# Altium footprint library PK2N-3LLE-SD.PcbLib: 1 footprints
Each footprint in its own frame and in the unit in brackets; x right, y up, seen from the top. Pads: shape width x height; smd on the part's side, far side on the other; paste and mask are expansions set on the pad; w line width, h text height; cw(c..) or ccw(c..) is an arc to the next point about the centre after c.
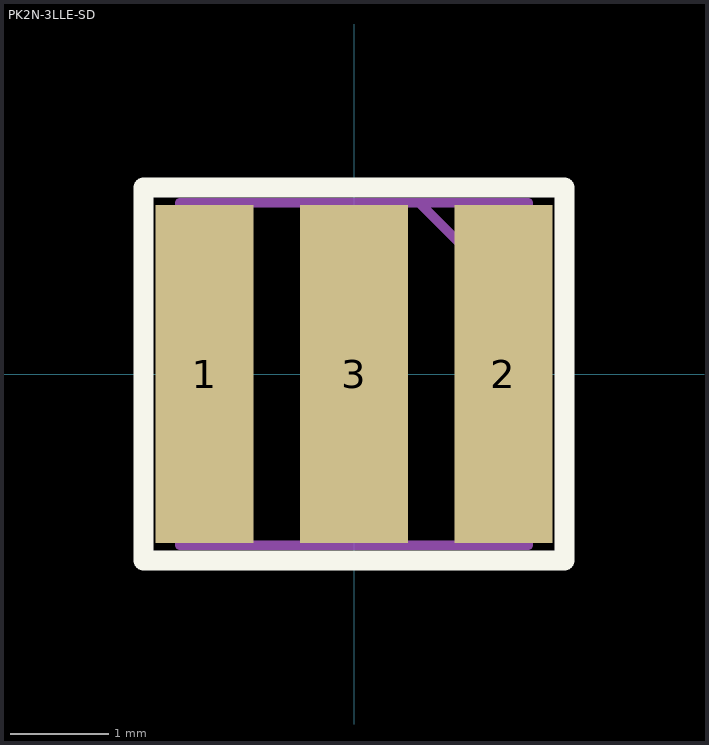
[diagram p0: the footprint, top view; thin cyan lines are the x and y axes]

## PK2N-3LLE-SD [mm]
height 0.55
pads (3):
  rect 1x3.45 smd mask+0.015: 1(-1.525,0) 2(1.525,0)
  rect 1.1x3.45 smd mask+0.015: 3(0,0)
Top Overlay:
  lines w0.2: -2.15,-1.905 -2.15,1.905 2.15,1.905 2.15,-1.905 -2.15,-1.905
Top Assembly:
  lines w0.1: 0.663,1.75 1.778,0.635 ; -1.778,-1.75 -1.778,1.75 1.778,1.75 1.778,-1.75 -1.778,-1.75 ; -0.663,-1.75 -0.635,-1.75 -0.663,-1.75
  text "'.Designator'" at -0.975,-0.35 h0.7
3D body "3_45x3_45.stp": height 1.9, standoff 0, extent -1.75,-1.75 1.75,1.75